# Altium schematic symbol library SCH - FET - N-CH - GENERIC.SCHLIB: 2 symbols
Pins are listed as number, name and electrical type; pins without a type are passive.

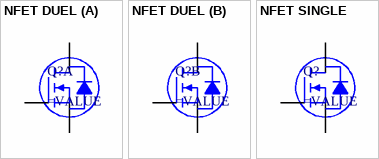
[diagram p0: symbols NFET DUEL to NFET SINGLE]

## NFET DUEL
designator Q?
part A pins: D1, G1, S1
part B pins: D2, G2, S2

## NFET SINGLE
designator Q?
pins: D, G, S